# Altium footprint library G103 Rev4.2E.PcbLib: 64 footprints (part 4 of 4)
Each footprint in its own frame and in the unit in brackets; x right, y up, seen from the top. Pads: shape width x height; smd on the part's side, far side on the other; paste and mask are expansions set on the pad; w line width, h text height; cw(c..) or ccw(c..) is an arc to the next point about the centre after c.
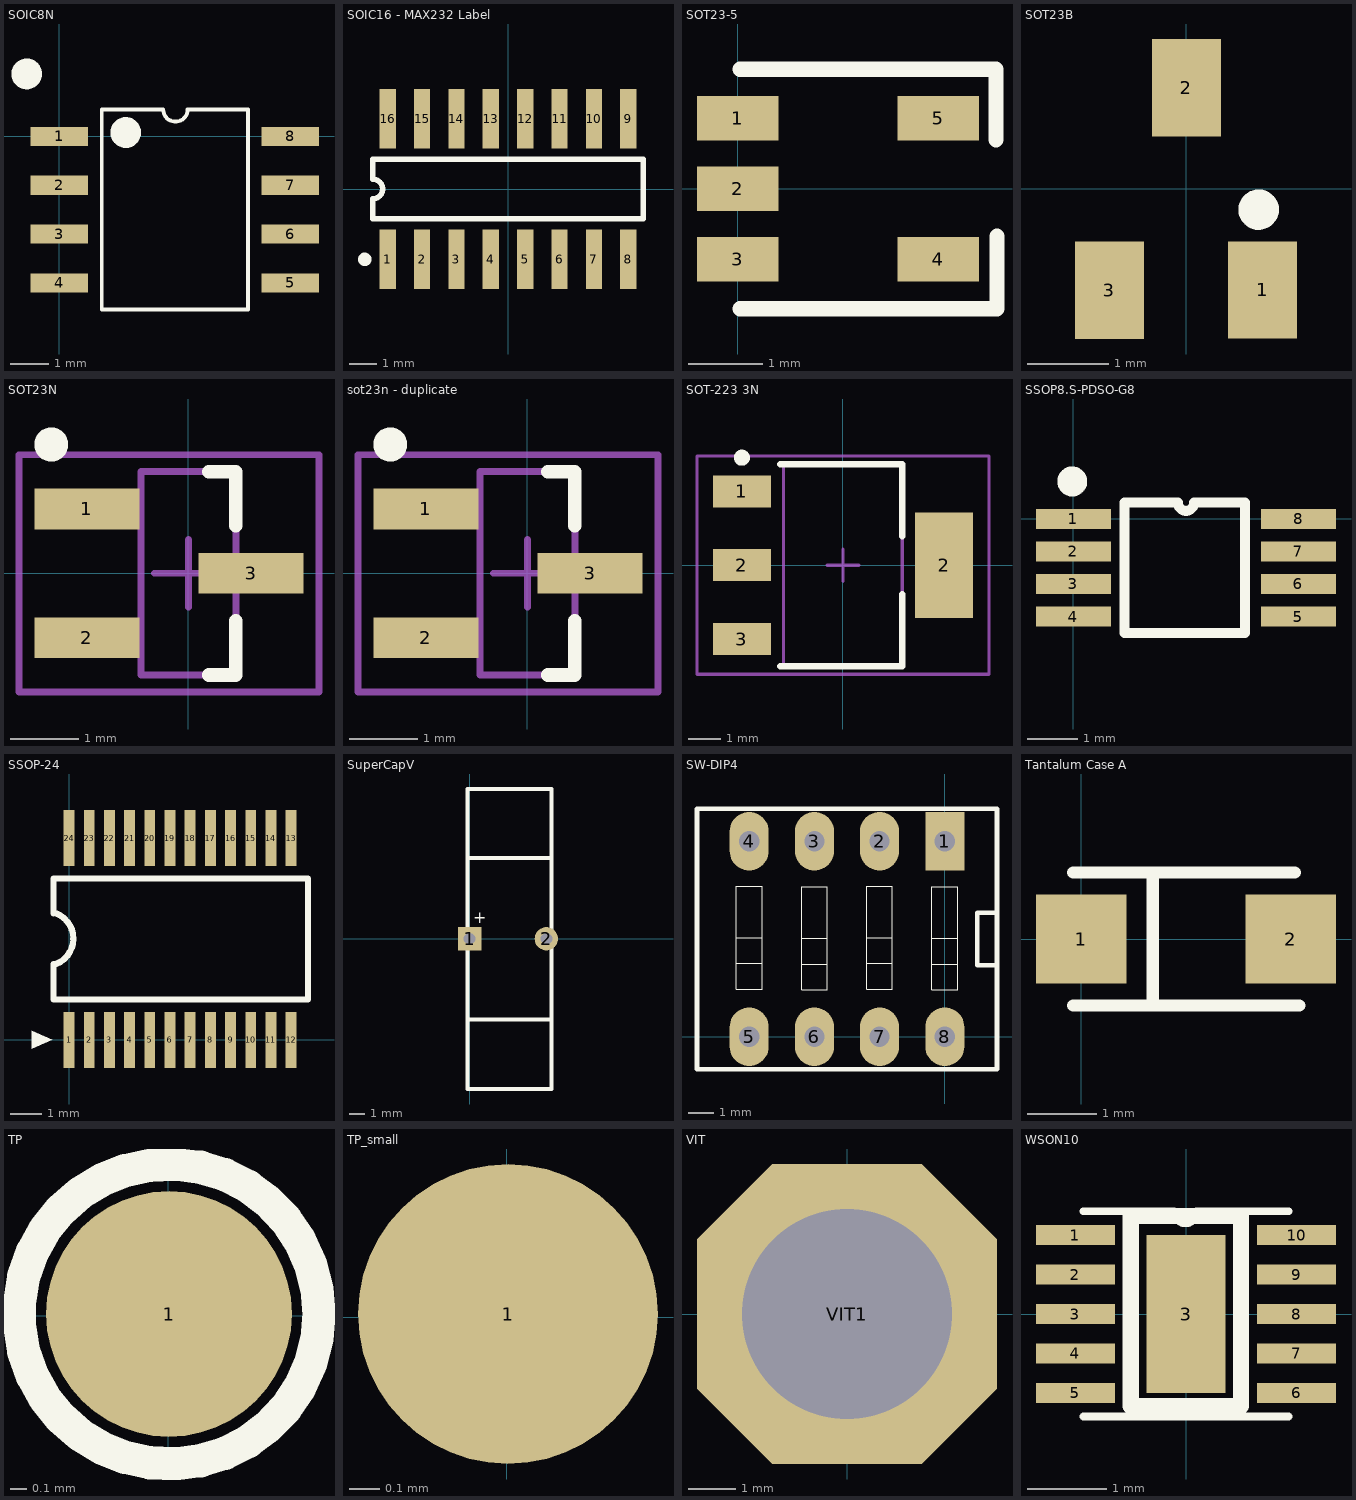
[diagram p3: the footprints below, top view; thin cyan lines are the x and y axes]

## SOIC8N [mm]
height 0.005
pads (8):
  rect 1.5x0.5 smd: 1(0,0) 2(0,-1.27) 3(0,-2.54) 4(0,-3.81) 5(6,-3.81) 6(6,-2.54) 7(6,-1.27) 8(6,0)
Top Overlay:
  circle w0.4: c1.725,0.1 r0.2
  circle w0.4: c-0.85,1.625 r0.2
  lines w0.1: 1.1,-4.5 4.9,-4.5 4.9,0.7 3.335,0.7 cw(c3.017,0.7) 2.7,0.7 1.1,0.7 1.1,-4.5
Mechanical 13:
  text ".Designator" at 3.531,-4.216 h2.03
3D body: height 0.25, standoff 0.01, extent -0.125,-1.51 0.975,-1.01
3D body: height 0.25, standoff 0.01, extent -0.1,-0.235 1,0.265
3D body: height 0.25, standoff 0.01, extent -0.125,-4.06 0.975,-3.56
3D body: height 0.25, standoff 0.01, extent -0.1,-2.785 1,-2.285
3D body: height 0.25, standoff 0.01, extent 5.025,-2.785 6.125,-2.285
3D body: height 0.25, standoff 0.01, extent 5.025,-4.05 6.125,-3.55
3D body: height 0.25, standoff 0.01, extent 5.025,-1.5 6.125,-1
3D body: height 0.25, standoff 0.01, extent 5.025,-0.225 6.125,0.275
3D body: height 1.76, standoff 1.74, extent 1.325,-0.3 2.125,0.475
3D body: height 1.75, standoff 0.25, extent 0.975,-4.55 5.025,0.75

## SOIC16 - MAX232 Label [mm] "Small Outline; 16 Leads; Body Width 3.5 mm; Pitch 1.27 mm"
height 0.005
pads (16):
  rect 0.6x2.2 smd: 1(-4.445,-2.6) 2(-3.175,-2.6) 3(-1.905,-2.6) 4(-0.635,-2.6) 5(0.635,-2.6) 6(1.905,-2.6) 7(3.175,-2.6) 8(4.445,-2.6) 9(4.445,2.6) 10(3.175,2.6) 11(1.905,2.6) 12(0.635,2.6) 13(-0.635,2.6) 14(-1.905,2.6) 15(-3.175,2.6) 16(-4.445,2.6)
Top Overlay:
  circle w0.25: c-5.295,-2.6 r0.125
  lines w0.2: -5,-1.1 5,-1.1 5,1.1 -5,1.1 -5,0.367 cw(c-5,0) -5,-0.367 -5,-1.1
Mechanical 13:
  text ".Designator" at -3.581,-0.61 h2.03
3D body: height 0.25, standoff 0.01, extent -3.425,-3.125 -2.925,-2.025
3D body: height 0.25, standoff 0.01, extent -4.7,-3.1 -4.2,-2
3D body: height 0.25, standoff 0.01, extent -0.875,-3.125 -0.375,-2.025
3D body: height 0.25, standoff 0.01, extent -2.15,-3.1 -1.65,-2
3D body: height 0.25, standoff 0.01, extent 1.65,-3.1 2.15,-2
3D body: height 0.25, standoff 0.01, extent 0.375,-3.075 0.875,-1.975
3D body: height 0.25, standoff 0.01, extent 4.2,-3.125 4.7,-2.025
3D body: height 0.25, standoff 0.01, extent 2.925,-3.1 3.425,-2
3D body: height 0.25, standoff 0.01, extent 2.925,2.025 3.425,3.125
3D body: height 0.25, standoff 0.01, extent 4.2,2 4.7,3.1
3D body: height 0.25, standoff 0.01, extent 0.375,2.025 0.875,3.125
3D body: height 0.25, standoff 0.01, extent 1.65,2 2.15,3.1
3D body: height 0.25, standoff 0.01, extent -2.15,2.025 -1.65,3.125
3D body: height 0.25, standoff 0.01, extent -0.875,2 -0.375,3.1
3D body: height 0.25, standoff 0.01, extent -3.425,2 -2.925,3.1
3D body: height 0.25, standoff 0.01, extent -4.7,2.025 -4.2,3.125
3D body: height 1.76, standoff 1.74, extent -4.5,-1.575 -3.7,-0.8
3D body: height 1.75, standoff 0.25, extent -4.996,-2 5.004,2
3D body: height 1.76, standoff 1.74, extent 1.425,-0.55 2.425,0.825
3D body: height 1.76, standoff 1.74, extent 2.625,-0.55 3.625,0.825
3D body: height 1.76, standoff 1.74, extent 0.225,-0.55 1.225,0.825
3D body: height 1.76, standoff 1.74, extent -0.975,-0.525 0.025,0.8
3D body: height 1.76, standoff 1.74, extent -2,0.05 -1.35,0.25
3D body: height 1.76, standoff 1.74, extent -2.175,-0.525 -1.175,0.8
3D body: height 1.76, standoff 1.74, extent -3.375,-0.525 -2.375,0.8

## SOT23-5 [mm]
height 0.005
pads (5):
  rect 1.1x0.6 smd: 1(0,0.95) 2(0,0) 3(0,-0.95) 4(2.7,-0.95) 5(2.7,0.95)
Top Overlay:
  lines w0.203: 0.032,-1.62 3.493,-1.62 3.493,-0.643 ; 0.032,1.607 0.045,1.607 3.479,1.607 3.479,0.658
3D body "SOT-23-5.STEP": height 1.05, standoff -0.05, extent 0.1,-1.5 2.6,1.5

## SOT23B [mm] "SOT 23B"
height 1.27
pads (3):
  rect 0.85x1.2 smd: 1(0.94,-1.245) 2(0,1.25) 3(-0.95,-1.25)
Top Overlay:
  circle w0.25: c0.891,-0.254 r0.125
3D body "SW3DPS-SOT-23-DEFAULT.STEP": height 1.06, standoff -0.04, extent -1.5,-1.301 1.5,1.199

## SOT23N [mm] "SOT23, 3-Leads, Body 3.0x2.6mm (max), Pitch 0.95mm, IPC Medium Density"
height 1.1
pads (3):
  rect 1.55x0.6 smd: 1(-1.5,0.95) 2(-1.5,-0.95) 3(0.925,0)
Top Overlay:
  circle w0.25: c-2.025,1.9 r0.125
  lines w0.2: 0.3,-1.5 0.7,-1.5 0.7,-0.7 ; 0.3,1.5 0.7,1.5 0.7,0.7
Mechanical 13:
  lines w0.1: -0.7,-1.5 0.7,-1.5 0.7,1.5 -0.7,1.5 -0.7,-1.5
Mechanical 15:
  lines w0.1: -0.5,0 0.5,0 ; 0,-0.5 0,0.5 ; -2.5,-1.75 1.925,-1.75 1.925,1.75 -2.5,1.75 -2.5,-1.75
3D body "SOT-23.STEP": height 1.05, standoff -0.05, extent -1.27,-1.5 1.23,1.5

## sot23n - duplicate [mm]
pads (3):
  rect 1.55x0.6 smd: 1(-1.5,0.95) 2(-1.5,-0.95) 3(0.925,0)
Top Overlay:
  circle w0.25: c-2.025,1.9 r0.125
  lines w0.2: 0.3,-1.5 0.7,-1.5 0.7,-0.7 ; 0.3,1.5 0.7,1.5 0.7,0.7
Mechanical 13:
  lines w0.1: -0.7,-1.5 0.7,-1.5 0.7,1.5 -0.7,1.5 -0.7,-1.5
Mechanical 15:
  lines w0.1: -0.5,0 0.5,0 ; 0,-0.5 0,0.5 ; -2.5,-1.75 1.925,-1.75 1.925,1.75 -2.5,1.75 -2.5,-1.75
3D body "SOT-23.STEP": height 1.05, standoff -0.05, extent -1.27,-1.5 1.23,1.5

## SOT-223 3N [mm]
height 1.8
pads (4):
  rect 1.8x1 smd: 1(-3.15,2.3) 2(-3.15,0) 3(-3.15,-2.3)
  rect 1.8x3.3 smd: 2(3.15,0)
Top Overlay:
  circle w0.25: c-3.15,3.35 r0.125
  lines w0.2: -1.95,-3.15 1.85,-3.15 1.85,-0.9 ; -1.95,3.15 1.85,3.15 1.85,0.9
Mechanical 13:
  lines w0.1: -1.85,-3.15 1.85,-3.15 1.85,3.15 -1.85,3.15 -1.85,-3.15
  text ".Designator" at 0.61,-2.692 h2.03
Mechanical 15:
  lines w0.1: -0.5,0 0.5,0 ; 0,-0.5 0,0.5 ; -4.55,-3.4 4.55,-3.4 4.55,3.4 -4.55,3.4 -4.55,-3.4
3D body "SOT-223-1.STEP": height 1.69, standoff 0.04, extent -3.525,-3.25 3.475,3.25

## SSOP8.S-PDSO-G8 [mm]
height 0.005
pads (8):
  rect 1.5x0.4 smd: 1(0,0) 2(0,-0.65) 3(0,-1.3) 4(0,-1.95) 5(4.5,-1.95) 6(4.5,-1.3) 7(4.5,-0.65) 8(4.5,0)
Top Overlay:
  lines w0.2: 1.016,-2.275 3.429,-2.275 3.429,0.325 2.413,0.325 cw(c2.25,0.325) 2.088,0.325 1.016,0.325 1.016,-2.275
  lines w0.3: 0.125,0.75 cw(c-0.025,0.75) 0.124,0.767
3D body: height 0.2, standoff 0, extent 3.75,-1.475 4.75,-1.125
3D body: height 0.2, standoff 0, extent 3.75,-0.825 4.75,-0.475
3D body: height 0.2, standoff 0, extent 3.75,-0.175 4.75,0.175
3D body: height 0.2, standoff 0, extent -0.25,-2.125 0.75,-1.775
3D body: height 0.2, standoff 0, extent -0.25,-1.475 0.75,-1.125
3D body: height 0.2, standoff 0, extent -0.25,-0.825 0.75,-0.475
3D body: height 0.2, standoff 0, extent 3.75,-2.125 4.75,-1.775
3D body: height 0.2, standoff 0, extent -0.25,-0.175 0.75,0.175
3D body: height 1.1, standoff 0, extent 0.75,-2.475 3.75,0.525
3D body: height 1.2, standoff 1.1, extent 1.049,-0.23 1.549,0.27

## SSOP-24 [mm] "SSOP, Plastic; 24 Leads; Body Width 5.2 mm; Pitch 0.65 mm"
height 1.99
pads (24):
  rect 0.35x1.8 smd: 1(0,0) 2(0.65,0) 3(1.3,0) 4(1.95,0) 5(2.6,0) 6(3.25,0) 7(3.9,0) 8(4.55,0) 9(5.2,0) 10(5.85,0) 11(6.5,0) 12(7.15,0) 13(7.15,6.5) 14(6.5,6.5) 15(5.85,6.5) 16(5.2,6.5) 17(4.55,6.5) 18(3.9,6.5) 19(3.25,6.5) 20(2.6,6.5) 21(1.95,6.5) 22(1.3,6.5) 23(0.65,6.5) 24(0,6.5)
Top Overlay:
  region: -1.2,0.289 -0.55,0 -1.2,-0.289
  lines w0.2: -0.5,2.445 -0.5,1.3 7.7,1.3 7.7,5.2 -0.5,5.2 -0.5,4.074
  lines w0.203: -0.418,2.445 ccw(c-0.737,3.261) -0.411,4.074
3D body "SSOP24.STEP": height 1.85, standoff -0.05, extent -0.532,-0.525 7.7,7.025

## SuperCapV [mil] "PanasonicV 1F"
height 0.2
pads (2):
  rect 60x60 hole 30: 1(0,0)
  round 60 hole 30: 2(196.85,0)
Top Overlay:
  lines w10: -5,-206.69 210,-206.69 ; -5,206.69 210,206.69 ; -5,-385 210,-385 210,383.86 -5,383.86 -5,-385
  text "+" at 10,40 h30

## SW-DIP4 [mil]
height 0.2
pads (8):
  rect 60x90 hole 31: 1(0,300)
  oval 60x90 hole 31: 2(-100,300) 3(-200,300) 4(-300,300) 5(-300,0) 6(-200,0) 7(-100,0) 8(0,0)
Top Overlay:
  lines w1.5: -319.69,112.63 -280.31,112.63 ; -319.69,152 -280.31,152 ; -219.69,111.63 -180.31,111.63 ; -219.69,151 -180.31,151 ; -119.69,112.63 -80.31,112.63 ; -119.69,152 -80.31,152 ; -19.68,111.63 19.68,111.63 ; -19.68,151 19.68,151 ; -319.69,73.26 -319.69,230.74 -280.31,230.74 -280.31,73.26 -319.69,73.26 ; -219.69,72.26 -219.69,229.74 -180.31,229.74 -180.31,72.26 -219.69,72.26 ; -119.69,73.26 -80.31,73.26 -80.31,230.74 -119.69,230.74 -119.69,73.26 ; -19.68,72.26 19.68,72.26 19.68,229.74 -19.68,229.74 -19.68,72.26
  lines w7: 80,110 50,110 50,190 80,190 ; -380,-50 -380,350 80,350 80,-50 -380,-50
3D body "User Library-DIPSWITCH.step": height 271.65, standoff -125.98, extent -379.92,-50 79.92,350

## Tantalum Case A [mm]
height 0.005
pads (2):
  rect 1.3x1.27 smd: 1(0,0) 2(3,0)
Top Overlay:
  lines w0.178: -0.118,-0.953 3.121,-0.953 ; -0.118,0.953 3.057,0.953 ; 1.025,-0.889 1.025,0.953
3D body "User Library-Tantalum Capacitor Case A.STEP": height 1.65, standoff 0, extent -0.181,-0.8 3.209,0.8

## TP [mm] "Test Point"
height 0.005
pads (1):
  round 1.5 smd: 1(0.004,0.011)
Top Overlay:
  circle w0.203: c0.004,0.011 r0.916
3D body: height 0, standoff 0, extent -0.912,-0.904 0.919,0.927

## TP_small [mm] "Test Point"
height 0.005
pads (1):
  round 1 smd: 1(0.004,0.011)

## VIT [mm] "VIT"
height 0.005
pads (1):
  oct 6.35x6.35 hole 4.445: VIT1(0,0)

## WSON10 [mm] "Plastic small Outline WSON10"
height 0.005
pads (11):
  rect 1x0.25 smd: 1(-1.4,1) 2(-1.4,0.5) 3(-1.4,0) 4(-1.4,-0.5) 5(-1.4,-1) 6(1.4,-1) 7(1.4,-0.5) 8(1.4,0) 9(1.4,0.5) 10(1.4,1)
  rect 1x2 smd: 3(0,0)
Top Overlay:
  lines w0.1: -1.3,-1.296 1.3,-1.296 ; -1.3,1.301 -0.15,1.301 ; -0.132,1.275 ccw(c-0.007,1.275) 0.118,1.275 ; 0.129,1.301 1.3,1.301
  lines w0.203: -0.7,-1.164 0.698,-1.164 0.698,1.242 -0.7,1.242 -0.7,-1.164
Mechanical 13:
  text ".Designator" at -0.546,-1.016 h2.03